# EAGLE library part M4-* (library rele)
RELAY
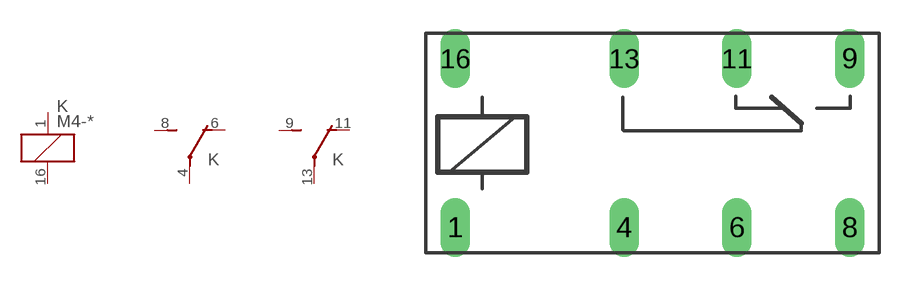
[diagram p13: symbol with the pads of M4XXH; footprint M4XXH]

Designator prefix K; gates G$1=K G$2=U G$3=U

## M4-05, M4-06, M4-12, M4-24  [M4XXH]
1  G$1:1  pas
4  G$2:P  pas
6  G$2:O  pas
8  G$2:S  pas
9  G$3:S  pas
11  G$3:O  pas
13  G$3:P  pas
16  G$1:2  pas

## Footprint M4XXH (pad centres in mm)
RELAY
drill 0.813 long: 1 -7.62,-3.81; 4 0,-3.81; 6 5.08,-3.81; 8 10.16,-3.81; 9 10.16,3.81; 11 5.08,3.81; 13 0,3.81; 16 -7.62,3.81